# Altium schematic symbol library GENERIC_R_VAR.Schlib: 1 symbol
Pins are listed as number, name and electrical type; pins without a type are passive.

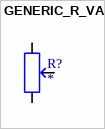
[diagram p0: symbol GENERIC_R_VAR]

## GENERIC_R_VAR
designator R?
pins: 1, 2, 3